# Altium footprint library TPS61070.PCBLIB: 3 footprints
Each footprint in its own frame and in the unit in brackets; x right, y up, seen from the top. Pads: shape width x height; smd on the part's side, far side on the other; paste and mask are expansions set on the pad; w line width, h text height; cw(c..) or ccw(c..) is an arc to the next point about the centre after c.
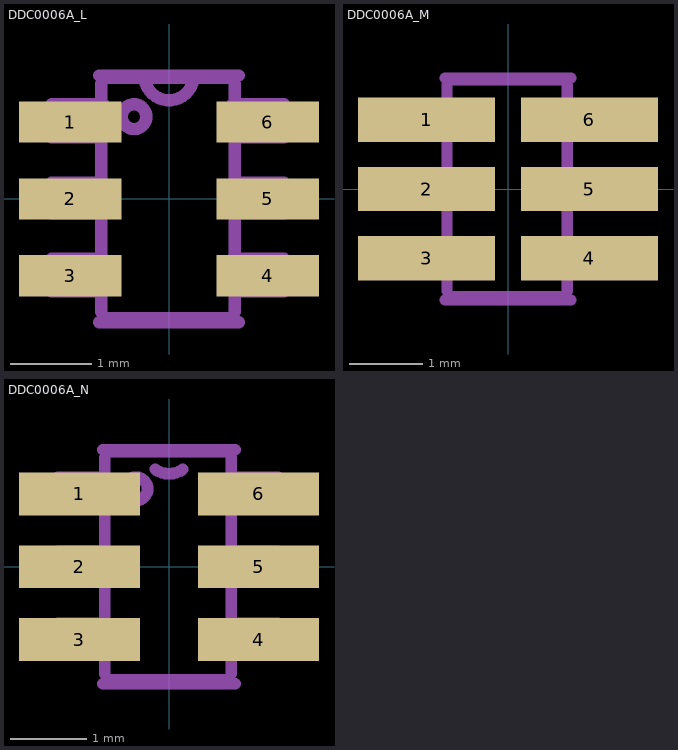
[diagram p0: the footprints below, top view; thin cyan lines are the x and y axes]

## DDC0006A_L [mil]
pads (6):
  rect 50x20 smd: 1(-48,37.4) 2(-48,0) 3(-48,-37.4) 4(48,-37.4) 5(48,0) 6(48,37.4)
Assembly Top:
  lines w6: -33,-55 -33,-45 ; -33,56 -33,46 ; -32,-45 -33,-45 ; -32,-29 -33,-29 ; -32,-7 -33,-7 ; -32,8 -33,8 ; -32,30 -33,30 ; -32,46 -33,46 ; -30,-58 29,-58 ; -30,59 29,59 ; 31,-45 32,-45 ; 31,-29 32,-29 ; 31,-7 32,-7 ; 31,8 32,8 ; 31,30 32,30 ; 31,46 32,46 ; 32,-55 32,-45 ; 32,56 32,46 ; -33,-45 -57,-45 -57,-29 -33,-29 ; -33,-29 -33,-7 ; -33,-7 -57,-7 -57,8 -33,8 ; -33,8 -33,30 ; -33,30 -57,30 -57,46 -33,46 ; 32,-45 56,-45 56,-29 32,-29 ; 32,-29 32,-7 ; 32,-7 56,-7 56,8 32,8 ; 32,8 32,30 ; 32,30 56,30 56,46 32,46 ; -23,40 cw(c-17,40) -11,40 cw(c-17,40) -23,40
  text ".Designator" at -36,28 h77.5
Top Assembly:
  lines w6: -34,-60 34,-60 ; -34,60 -12,60 ; 34,60 12,60 ; -12,60 ccw(c0,60) 12,60 ; -12,60 12,60
  text "Designator90" at -65,88 h77.5

## DDC0006A_M [mil]
pads (6):
  rect 74x24 smd: 1(-44,37.4) 2(-44,0) 3(-44,-37.4) 4(44,-37.4) 5(44,0) 6(44,37.4)
Assembly Top:
  lines w6: -33,-55 -33,-45 ; -33,-29 -33,-7 ; -33,8 -33,30 ; -33,46 -33,56 ; -32,-45 -57,-45 -57,-29 -32,-29 ; -32,-7 -57,-7 -57,8 -32,8 ; -32,30 -57,30 -57,46 -32,46 ; -30,-58 29,-58 ; -30,59 29,59 ; 31,-45 56,-45 56,-29 31,-29 ; 31,-7 56,-7 56,8 31,8 ; 31,30 56,30 56,46 31,46 ; 32,-55 32,-45 ; 32,-29 32,-7 ; 32,8 32,30 ; 32,46 32,56 ; -23,40 cw(c-17,40) -11,40 cw(c-17,40) -23,40
  text ".Designator" at -36,28 h77.5
Top Assembly:
  lines w6: -34,-60 34,-60 ; -34,60 34,60
  text "Designator89" at -73,88 h77.5

## DDC0006A_N [mil]
pads (6):
  rect 62x22 smd: 1(-46,37.4) 2(-46,0) 3(-46,-37.4) 4(46,-37.4) 5(46,0) 6(46,37.4)
Assembly Top:
  lines w6: -33,-55 -33,-45 ; -33,-29 -33,-7 ; -33,8 -33,30 ; -33,46 -33,56 ; -32,-45 -57,-45 -57,-29 -32,-29 ; -32,-7 -57,-7 -57,8 -32,8 ; -32,30 -57,30 -57,46 -32,46 ; -30,-58 29,-58 ; -30,59 29,59 ; 31,-45 56,-45 56,-29 31,-29 ; 31,-7 56,-7 56,8 31,8 ; 31,30 56,30 56,46 31,46 ; 32,-55 32,-45 ; 32,-29 32,-7 ; 32,8 32,30 ; 32,46 32,56 ; -23,40 cw(c-17,40) -11,40 cw(c-17,40) -23,40
  text ".Designator" at -36,28 h77.5
Top Assembly:
  lines w6: -34,-60 34,-60 ; -34,60 34,60 ; -7,50 ccw(c0,59.46) 7,50
  text "Designator88" at -69,88 h77.5